# Altium footprint library Package_SO.PcbLib: 33 footprints (part 1 of 3)
Each footprint in its own frame and in the unit in brackets; x right, y up, seen from the top. Pads: shape width x height; smd on the part's side, far side on the other; paste and mask are expansions set on the pad; w line width, h text height; cw(c..) or ccw(c..) is an arc to the next point about the centre after c.
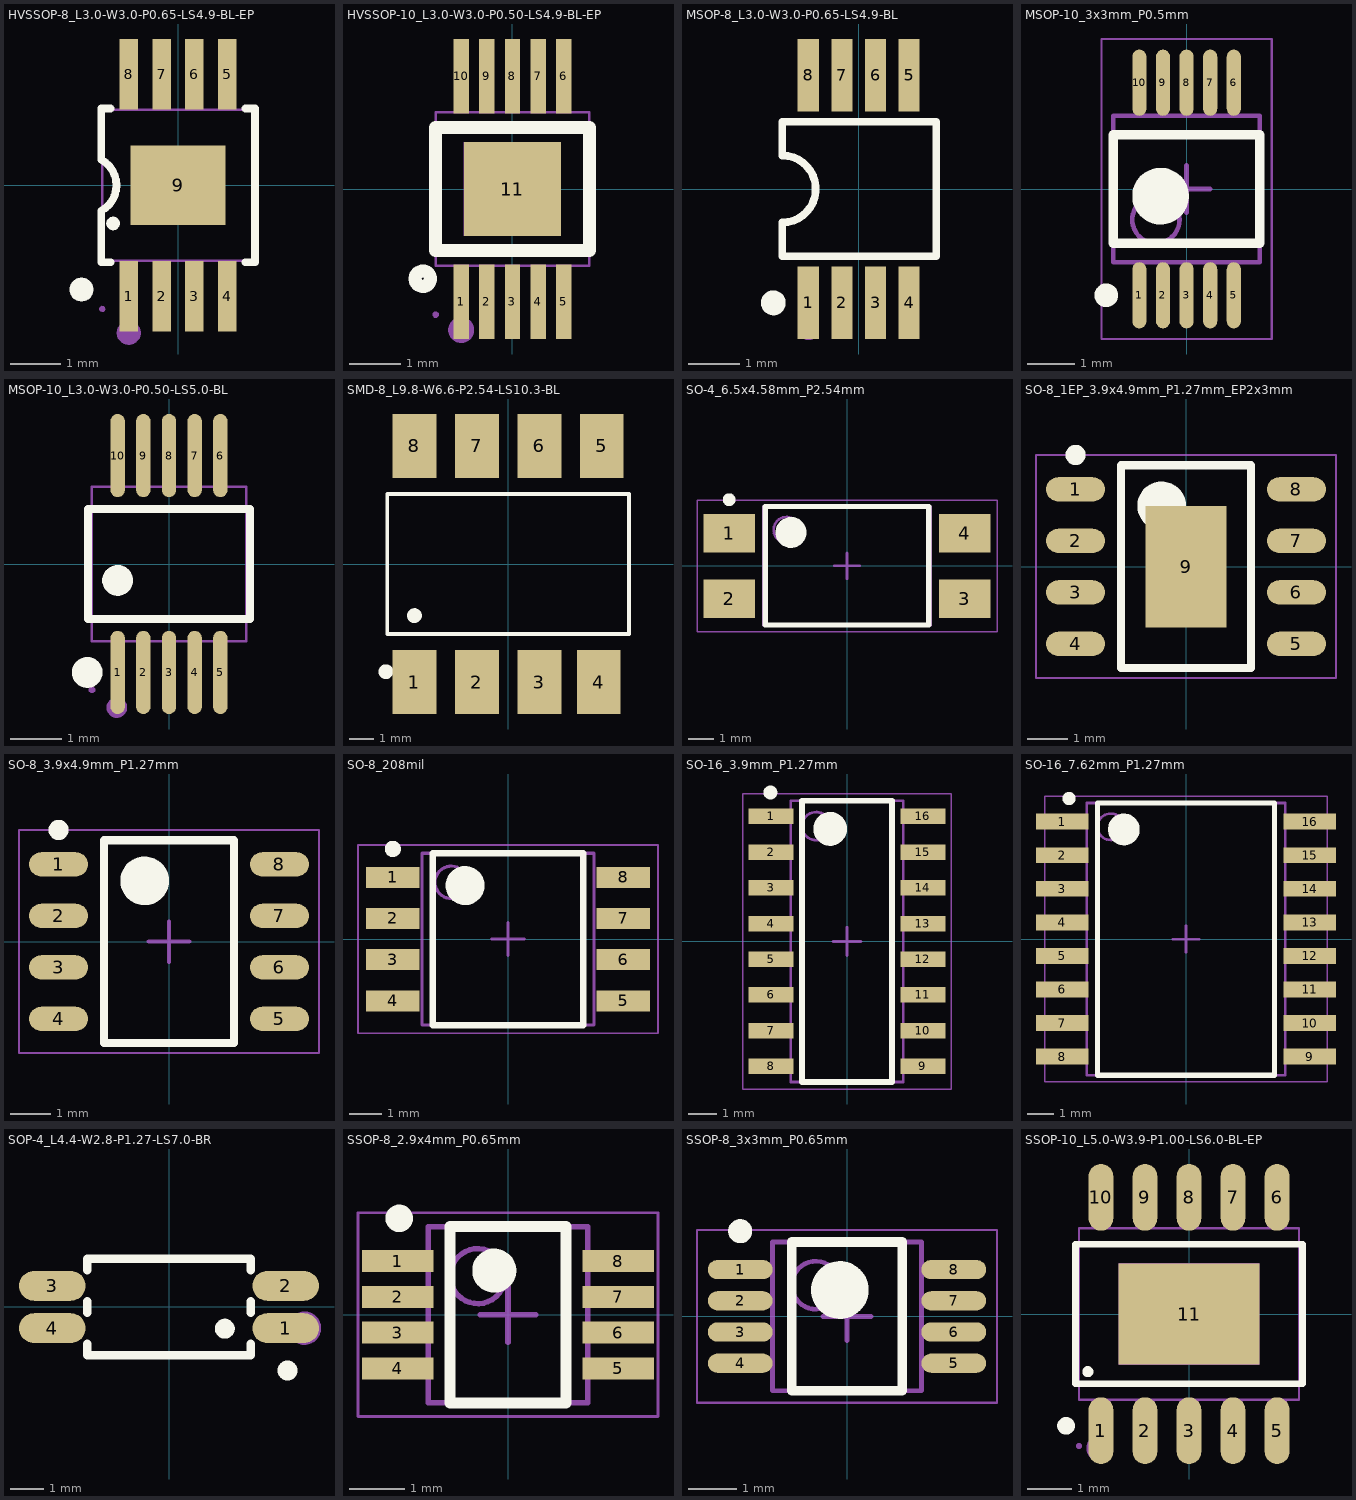
[diagram p0: the footprints below, top view; thin cyan lines are the x and y axes]

## HVSSOP-8_L3.0-W3.0-P0.65-LS4.9-BL-EP [mm]
pads (9):
  rect 0.363x1.4 smd: 1(-0.975,-2.2) 2(-0.325,-2.2) 3(0.325,-2.2) 4(0.975,-2.2) 5(0.975,2.2) 6(0.325,2.2) 7(-0.325,2.2) 8(-0.975,2.2)
  rect 1.89x1.57 smd: 9(0,0)
Top Overlay:
  lines w0.137: -1.354,-0.754 -1.346,-0.721 -1.321,-0.696 -1.285,-0.686 -1.252,-0.696 -1.227,-0.721 -1.217,-0.754 -1.227,-0.79 -1.252,-0.815 -1.285,-0.823 -1.321,-0.815 -1.346,-0.79 -1.354,-0.754
  lines w0.152: -1.336,-1.524 -1.524,-1.524 -1.524,-0.508 -1.438,-0.45 -1.361,-0.378 -1.3,-0.295 -1.257,-0.203 -1.229,-0.102 -1.219,0 -1.229,0.104 -1.257,0.203 -1.3,0.297 -1.361,0.381 -1.438,0.452 -1.524,0.508 -1.524,1.524 -1.336,1.524 ; 1.339,-1.524 1.524,-1.524 1.524,1.524 1.339,1.524
  lines w0.239: -2.032,-2.065 -2.022,-2.019 -1.996,-1.981 -1.958,-1.953 -1.913,-1.946 -1.867,-1.953 -1.826,-1.981 -1.801,-2.019 -1.793,-2.065 -1.801,-2.111 -1.826,-2.149 -1.867,-2.177 -1.913,-2.184 -1.958,-2.177 -1.996,-2.149 -2.022,-2.111 -2.032,-2.065
Mechanical 4:
  lines w0.239: -1.095,-2.926 -1.085,-2.88 -1.059,-2.84 -1.021,-2.814 -0.975,-2.807 -0.93,-2.814 -0.889,-2.84 -0.864,-2.88 -0.856,-2.926 -0.864,-2.972 -0.889,-3.01 -0.93,-3.035 -0.975,-3.045 -1.021,-3.035 -1.059,-3.01 -1.085,-2.972 -1.095,-2.926
Mechanical 7:
  lines w0.051: -1.499,-1.499 1.501,-1.499 1.501,1.501 -1.499,1.501 -1.499,-1.499
Mechanical 8:
  region: -0.818,-1.91 -0.818,-1.491 -1.133,-1.491 -1.133,-1.91
  region: -0.168,-1.91 -0.168,-1.491 -0.483,-1.491 -0.483,-1.91
  region: 0.483,-1.91 0.483,-1.491 0.168,-1.491 0.168,-1.91
  region: 1.133,-1.91 1.133,-1.491 0.818,-1.491 0.818,-1.91
  region: 1.133,1.91 1.133,1.491 0.818,1.491 0.818,1.91
  region: 0.483,1.91 0.483,1.491 0.168,1.491 0.168,1.91
  region: -0.168,1.91 -0.168,1.491 -0.483,1.491 -0.483,1.91
  region: -0.818,1.91 -0.818,1.491 -1.133,1.491 -1.133,1.91
Mechanical 9:
  region: -1.44,-2.451 -1.448,-2.482 -1.473,-2.504 -1.509,-2.51 -1.539,-2.494 -1.557,-2.466 -1.557,-2.433 -1.539,-2.405 -1.509,-2.39 -1.473,-2.395 -1.448,-2.418
Mechanical 10:
  region: -0.818,-2.449 -0.818,-1.9 -1.133,-1.9 -1.133,-2.449
  region: -0.168,-2.449 -0.168,-1.9 -0.483,-1.9 -0.483,-2.449
  region: 0.483,-2.449 0.483,-1.9 0.168,-1.9 0.168,-2.449
  region: 1.133,-2.449 1.133,-1.9 0.818,-1.9 0.818,-2.449
  region: 1.133,2.451 1.133,1.9 0.818,1.9 0.818,2.451
  region: 0.483,2.451 0.483,1.9 0.168,1.9 0.168,2.451
  region: -0.168,2.451 -0.168,1.9 -0.483,1.9 -0.483,2.451
  region: -0.818,2.451 -0.818,1.9 -1.133,1.9 -1.133,2.451
  region: -0.899,-0.749 -0.899,0.749 0.902,0.749 0.902,-0.749
3D body "TSOP65P400X115-8N.step": height 1.15, standoff 0, extent -1.6,-2 1.6,2

## HVSSOP-10_L3.0-W3.0-P0.50-LS4.9-BL-EP [mm]
pads (11):
  rect 0.3x1.45 smd: 1(-1,-2.201) 2(-0.5,-2.201) 3(0,-2.201) 4(0.5,-2.201) 5(1,-2.201) 6(1,2.201) 7(0.5,2.201) 8(0,2.201) 9(-0.5,2.201) 10(-1,2.201)
  rect 1.89x1.83 smd: 11(-0.001,-0.001)
Top Overlay:
  circle w0.254: c-1.75,-1.75 r0.15
  lines w0.254: -1.503,-1.199 1.5,-1.199 1.5,1.199 -1.503,1.199 -1.503,0.3 ; -1.501,-1.2 -1.501,0.3
Mechanical 6:
  circle w0.254: c-1,-2.75 r0.127
Mechanical 15:
  region: -1.44,-2.45 -1.441,-2.426 -1.476,-2.391 -1.525,-2.391 -1.56,-2.426 -1.56,-2.45 -1.56,-2.475 -1.525,-2.509 -1.476,-2.509 -1.441,-2.475 -1.44,-2.45
  region: -0.946,0.914 0.943,0.914 0.943,-0.915 -0.946,-0.915
  region: -1.11,1.49 -1.11,1.91 -0.89,1.91 -0.89,1.49
  region: -1.11,1.9 -1.11,2.45 -0.89,2.45 -0.89,1.9
  region: -0.61,1.49 -0.61,1.91 -0.39,1.91 -0.39,1.49
  region: -0.61,1.9 -0.61,2.45 -0.39,2.45 -0.39,1.9
  region: -0.11,1.49 -0.11,1.91 0.11,1.91 0.11,1.49
  region: -0.11,1.9 -0.11,2.45 0.11,2.45 0.11,1.9
  region: 0.39,1.49 0.39,1.91 0.61,1.91 0.61,1.49
  region: 0.39,1.9 0.39,2.45 0.61,2.45 0.61,1.9
  region: 0.89,1.49 0.89,1.91 1.11,1.91 1.11,1.49
  region: 0.89,1.9 0.89,2.45 1.11,2.45 1.11,1.9
  region: 0.89,-1.91 0.89,-1.49 1.11,-1.49 1.11,-1.91
  region: 0.89,-2.45 0.89,-1.9 1.11,-1.9 1.11,-2.45
  region: 0.39,-1.91 0.39,-1.49 0.61,-1.49 0.61,-1.91
  region: 0.39,-2.45 0.39,-1.9 0.61,-1.9 0.61,-2.45
  region: -0.11,-1.91 -0.11,-1.49 0.11,-1.49 0.11,-1.91
  region: -0.11,-2.45 -0.11,-1.9 0.11,-1.9 0.11,-2.45
  region: -0.61,-1.91 -0.61,-1.49 -0.39,-1.49 -0.39,-1.91
  region: -0.61,-2.45 -0.61,-1.9 -0.39,-1.9 -0.39,-2.45
  region: -1.11,-1.91 -1.11,-1.49 -0.89,-1.49 -0.89,-1.91
  region: -1.11,-2.45 -1.11,-1.9 -0.89,-1.9 -0.89,-2.45
  lines w0.051: -1.5,-1.5 -1.5,1.5 1.5,1.5 1.5,-1.5 -1.5,-1.5
3D body "TSSOP50P490X100-10N.step": height 1, standoff 0, extent -1.55,-2.45 1.55,2.45

## MSOP-8_L3.0-W3.0-P0.65-LS4.9-BL [mm]
pads (8):
  rect 0.406x1.397 smd: 1(-0.975,-2.2) 2(-0.325,-2.2) 3(0.325,-2.2) 4(0.975,-2.2) 5(0.975,2.2) 6(0.325,2.2) 7(-0.325,2.2) 8(-0.975,2.2)
Top Overlay:
  circle w0.24: c-1.65,-2.2 r0.12
  lines w0.15: -1.478,-1.3 1.5,-1.3 1.5,1.3 -1.478,1.3 -1.478,0.648 cw(c-1.478,0) -1.478,-0.648 -1.478,-1.3
Mechanical 15:
  circle w0.2: c-0.97,-2.72 r0.1
3D body "TSOP65P400X115-8N.step": height 1.15, standoff 0, extent -1.6,-2 1.6,2

## MSOP-10_3x3mm_P0.5mm [mm] "TSSOP, 10-Leads, Body 3.00x3.00mm, Pitch 0.50mm, IPC Medium Density"
height 1
pads (10):
  oval 0.3x1.4 smd: 1(-1,-2.25) 2(-0.5,-2.25) 3(0,-2.25) 4(0.5,-2.25) 5(1,-2.25) 6(1,2.25) 7(0.5,2.25) 8(0,2.25) 9(-0.5,2.25) 10(-1,2.25)
Top Overlay:
  circle w0.25: c-1.7,-2.25 r0.125
  circle w0.6: c-0.55,-0.15 r0.3
  lines w0.2: -1.55,-1.15 1.55,-1.15 1.55,1.15 -1.55,1.15 -1.55,-1.15
Mechanical 13:
  circle w0.1: c-0.65,-0.65 r0.5
  lines w0.1: -1.55,-1.55 1.55,-1.55 1.55,1.55 -1.55,1.55 -1.55,-1.55
Mechanical 15:
  lines w0.05: -1.8,-3.175 1.8,-3.175 1.8,3.175 -1.8,3.175 -1.8,-3.175
  lines w0.1: -0.5,0 0.5,0 ; 0,-0.5 0,0.5
3D body "TSSOP50P490X100-10N.step": height 1, standoff 0, extent -1.55,-2.45 1.55,2.45

## MSOP-10_L3.0-W3.0-P0.50-LS5.0-BL [mm]
pads (10):
  oval 0.28x1.62 smd paste+0 mask+0.051: 1(-1,-2.11) 2(-0.5,-2.11) 3(0,-2.11) 4(0.5,-2.11) 5(1,-2.11) 6(1,2.11) 7(0.5,2.11) 8(0,2.11) 9(-0.5,2.11) 10(-1,2.11)
Top Overlay:
  circle w0.3: c-1,-0.319 r0.15
  circle w0.3: c-1.592,-2.11 r0.15
  lines w0.152: -1.576,-1.071 -1.576,1.071 1.576,1.071 1.576,-1.071 -1.576,-1.071
Mechanical 6:
  circle w0.2: c-1.016,-2.794 r0.1
Mechanical 15:
  region: -1.44,-2.45 -1.44,-2.425 -1.475,-2.39 -1.525,-2.39 -1.56,-2.425 -1.56,-2.45 -1.56,-2.475 -1.525,-2.51 -1.475,-2.51 -1.44,-2.475 -1.44,-2.45
  region: -1.112,-2.45 -1.112,-1.9 -0.888,-1.9 -0.888,-2.45
  region: -1.112,-1.91 -1.112,-1.49 -0.888,-1.49 -0.888,-1.91
  region: -0.612,-2.45 -0.612,-1.9 -0.388,-1.9 -0.388,-2.45
  region: -0.612,-1.91 -0.612,-1.49 -0.388,-1.49 -0.388,-1.91
  region: -0.112,-2.45 -0.112,-1.9 0.112,-1.9 0.112,-2.45
  region: -0.112,-1.91 -0.112,-1.49 0.112,-1.49 0.112,-1.91
  region: 0.388,-2.45 0.388,-1.9 0.612,-1.9 0.612,-2.45
  region: 0.388,-1.91 0.388,-1.49 0.612,-1.49 0.612,-1.91
  region: 0.888,-2.45 0.888,-1.9 1.112,-1.9 1.112,-2.45
  region: 0.888,-1.91 0.888,-1.49 1.112,-1.49 1.112,-1.91
  region: -1.112,2.45 -1.112,1.9 -0.888,1.9 -0.888,2.45
  region: -1.112,1.91 -1.112,1.49 -0.888,1.49 -0.888,1.91
  region: -0.612,2.45 -0.612,1.9 -0.388,1.9 -0.388,2.45
  region: -0.612,1.91 -0.612,1.49 -0.388,1.49 -0.388,1.91
  region: -0.112,2.45 -0.112,1.9 0.112,1.9 0.112,2.45
  region: -0.112,1.91 -0.112,1.49 0.112,1.49 0.112,1.91
  region: 0.388,2.45 0.388,1.9 0.612,1.9 0.612,2.45
  region: 0.388,1.91 0.388,1.49 0.612,1.49 0.612,1.91
  region: 0.888,2.45 0.888,1.9 1.112,1.9 1.112,2.45
  region: 0.888,1.91 0.888,1.49 1.112,1.49 1.112,1.91
  lines w0.051: -1.5,-1.5 -1.5,1.5 1.5,1.5 1.5,-1.5 -1.5,-1.5
3D body "U1.stp": height 1.1, standoff 0, extent -1.5,-2.5 1.5,2.5

## SMD-8_L9.8-W6.6-P2.54-LS10.3-BL [mm]
pads (8):
  rect 1.78x2.6 smd: 1(-3.81,-4.8) 2(-1.27,-4.8) 3(1.27,-4.8) 4(3.683,-4.8) 5(3.81,4.8) 6(1.27,4.8) 7(-1.27,4.8) 8(-3.81,4.8)
Top Overlay:
  circle w0.3: c-4.974,-4.38 r0.15
  circle w0.3: c-3.81,-2.099 r0.15
  lines w0.152: -4.916,-2.851 4.916,-2.851 4.916,2.851 -4.916,2.851 -4.916,-2.851
Mechanical 15:
  circle w0.6: c-3.81,-5.334 r0.3
3D body "U1.stp": height 5.08, standoff 0, extent -4.9,-5.15 4.9,5.15

## SO-4_6.5x4.58mm_P2.54mm [mm] "SOP, 4-Leads, Body 4.58x6.50mm, Pitch 2.54mm, IPC Medium Density"
height 4.3
pads (4):
  rect 2x1.5 smd: 1(-4.575,1.27) 2(-4.575,-1.27) 3(4.575,-1.27) 4(4.575,1.27)
Top Overlay:
  circle w0.25: c-4.575,2.57 r0.125
  circle w0.6: c-2.175,1.3 r0.3
  lines w0.2: -3.175,-2.3 -3.175,2.3 3.175,2.3 3.175,-2.3 -3.175,-2.3
Mechanical 13:
  circle w0.1: c-2.35,1.4 r0.5
  lines w0.1: -3.25,-2.3 -3.25,2.3 3.25,2.3 3.25,-2.3 -3.25,-2.3
Mechanical 15:
  lines w0.05: -5.825,-2.55 -5.825,2.55 5.825,2.55 5.825,-2.55 -5.825,-2.55
  lines w0.1: -0.5,0 0.5,0 ; 0,-0.5 0,0.5
3D body "SOP254P1030X430-4N.step": height 4.3, standoff 0, extent -5.15,-2.3 5.15,2.3

## SO-8_1EP_3.9x4.9mm_P1.27mm_EP2x3mm [mm] "SOIC, 8-Leads, Body 4.9x3.90mm, Pitch 1.27mm, IPC Medium Density"
height 1.5
pads (9):
  oval 1.45x0.6 smd: 1(-2.725,1.905) 2(-2.725,0.635) 3(-2.725,-0.635) 4(-2.725,-1.905) 5(2.725,-1.905) 6(2.725,-0.635) 7(2.725,0.635) 8(2.725,1.905)
  rect 2x3 smd: 9(0,0)
Top Overlay:
  circle w0.6: c-0.6,1.5 r0.3
  circle w0.25: c-2.725,2.755 r0.125
  lines w0.2: -1.6,-2.5 1.6,-2.5 1.6,2.5 -1.6,2.5 -1.6,-2.5
Mechanical 15:
  lines w0.05: -3.7,-2.75 3.7,-2.75 3.7,2.75 -3.7,2.75 -3.7,-2.75
  lines w0.1: -0.5,0 0.5,0 ; 0,-0.5 0,0.5
3D body "CircuitWorks-SO-8.STEP": height 1.45, standoff 0, extent -2.915,-2.438 2.864,2.464

## SO-8_3.9x4.9mm_P1.27mm [mm] "SOIC, 8-Leads, Body 4.9x3.90mm, Pitch 1.27mm, IPC Medium Density"
height 1.5
pads (8):
  oval 1.45x0.6 smd: 1(-2.725,1.905) 2(-2.725,0.635) 3(-2.725,-0.635) 4(-2.725,-1.905) 5(2.725,-1.905) 6(2.725,-0.635) 7(2.725,0.635) 8(2.725,1.905)
Top Overlay:
  circle w0.6: c-0.6,1.5 r0.3
  circle w0.25: c-2.725,2.755 r0.125
  lines w0.2: -1.6,-2.5 1.6,-2.5 1.6,2.5 -1.6,2.5 -1.6,-2.5
Mechanical 15:
  lines w0.05: -3.7,-2.75 3.7,-2.75 3.7,2.75 -3.7,2.75 -3.7,-2.75
  lines w0.1: -0.5,0 0.5,0 ; 0,-0.5 0,0.5
3D body "CircuitWorks-SO-8.STEP": height 1.45, standoff 0, extent -2.915,-2.438 2.864,2.464

## SO-8_208mil [mm] "SOIC, 8-Leads, Body 5.28x5.28mm, Pitch 1.27mm, IPC Medium Density"
height 1.96
pads (8):
  rect 1.65x0.65 smd: 1(-3.55,1.905) 2(-3.55,0.635) 3(-3.55,-0.635) 4(-3.55,-1.905) 5(3.55,-1.905) 6(3.55,-0.635) 7(3.55,0.635) 8(3.55,1.905)
Top Overlay:
  circle w0.25: c-3.55,2.78 r0.125
  circle w0.6: c-1.325,1.65 r0.3
  lines w0.2: -2.325,-2.65 -2.325,2.65 2.325,2.65 2.325,-2.65 -2.325,-2.65
Mechanical 13:
  circle w0.1: c-1.75,1.75 r0.5
  lines w0.1: -2.65,-2.65 -2.65,2.65 2.65,2.65 2.65,-2.65 -2.65,-2.65
Mechanical 15:
  lines w0.05: -4.625,-2.9 -4.625,2.9 4.625,2.9 4.625,-2.9 -4.625,-2.9
  lines w0.1: -0.5,0 0.5,0 ; 0,-0.5 0,0.5
3D body "SOIC127P790X196-8N.step": height 1.96, standoff 0, extent -3.95,-2.65 3.95,2.65

## SO-16_3.9mm_P1.27mm [mm] "SOIC, 16-Leads, Body 9.90x3.90mm, Pitch 1.27mm, IPC Medium Density"
height 1.75
pads (16):
  rect 1.6x0.55 smd: 1(-2.7,4.445) 2(-2.7,3.175) 3(-2.7,1.905) 4(-2.7,0.635) 5(-2.7,-0.635) 6(-2.7,-1.905) 7(-2.7,-3.175) 8(-2.7,-4.445) 9(2.7,-4.445) 10(2.7,-3.175) 11(2.7,-1.905) 12(2.7,-0.635) 13(2.7,0.635) 14(2.7,1.905) 15(2.7,3.175) 16(2.7,4.445)
Top Overlay:
  circle w0.25: c-2.725,5.295 r0.125
  circle w0.6: c-0.6,4 r0.3
  lines w0.2: -1.6,-5 -1.6,5 1.6,5 1.6,-5 -1.6,-5
Mechanical 13:
  circle w0.1: c-1.1,4.1 r0.5
  lines w0.1: -2,-5 -2,5 2,5 2,-5 -2,-5
Mechanical 15:
  lines w0.05: -3.7,-5.25 -3.7,5.25 3.7,5.25 3.7,-5.25 -3.7,-5.25
  lines w0.1: -0.5,0 0.5,0 ; 0,-0.5 0,0.5
3D body "SOIC127P600X175-16N.step": height 1.75, standoff 0, extent -3,-5 3,5

## SO-16_7.62mm_P1.27mm [mm] "SOIC, 16-Leads, Body 10.30x7.50mm, Pitch 1.27mm, IPC Medium Density"
height 2
pads (16):
  rect 1.98x0.6 smd: 1(-4.685,4.445) 2(-4.685,3.175) 3(-4.685,1.905) 4(-4.685,0.635) 5(-4.685,-0.635) 6(-4.685,-1.905) 7(-4.685,-3.175) 8(-4.685,-4.445) 9(4.685,-4.445) 10(4.685,-3.175) 11(4.685,-1.905) 12(4.685,-0.635) 13(4.685,0.635) 14(4.685,1.905) 15(4.685,3.175) 16(4.685,4.445)
Top Overlay:
  circle w0.25: c-4.425,5.32 r0.125
  circle w0.6: c-2.35,4.15 r0.3
  lines w0.2: -3.35,-5.15 -3.35,5.15 3.35,5.15 3.35,-5.15 -3.35,-5.15
Mechanical 13:
  circle w0.1: c-2.85,4.25 r0.5
  lines w0.1: -3.75,-5.15 -3.75,5.15 3.75,5.15 3.75,-5.15 -3.75,-5.15
Mechanical 15:
  lines w0.05: -5.35,-5.4 -5.35,5.4 5.35,5.4 5.35,-5.4 -5.35,-5.4
  lines w0.1: -0.5,0 0.5,0 ; 0,-0.5 0,0.5
3D body "SOIC127P940X200-16N.step": height 2, standoff 0, extent -4.685,-5.15 4.685,5.15

## SOP-4_L4.4-W2.8-P1.27-LS7.0-BR [mm]
pads (4):
  oval 2x0.9 smd: 1(3.5,-0.635) 2(3.5,0.635) 3(-3.5,0.635) 4(-3.5,-0.635)
Top Overlay:
  lines w0.254: -2.45,-1.097 -2.45,-1.45 2.45,-1.45 2.45,-1.096 ; -2.45,-0.174 -2.45,0.173 ; -2.45,1.096 -2.45,1.45 2.45,1.45 2.45,1.096 ; 2.45,-0.174 2.45,0.174
  lines w0.3: 1.672,-0.801 cw(c1.673,-0.651) 1.674,-0.801 ; 3.555,-2.055 cw(c3.556,-1.905) 3.557,-2.055
Mechanical 15:
  circle w0.5: c4.064,-0.635 r0.25
3D body "U1.stp": height 2.1, standoff 0, extent -3.503,-1.3 3.503,1.3

## SSOP-8_2.9x4mm_P0.65mm [mm] "TSOP, 8-Leads, Body 2.95x2.80mm, Pitch 0.65mm, IPC Medium Density"
height 1.15
pads (8):
  rect 1.3x0.4 smd: 1(-2,0.975) 2(-2,0.325) 3(-2,-0.325) 4(-2,-0.975) 5(2,-0.975) 6(2,-0.325) 7(2,0.325) 8(2,0.975)
Top Overlay:
  circle w0.4: c-0.25,0.8 r0.2
  circle w0.25: c-1.975,1.75 r0.125
  lines w0.2: -1.05,-1.6 1.05,-1.6 1.05,1.6 -1.05,1.6 -1.05,-1.6
Mechanical 13:
  circle w0.1: c-0.55,0.7 r0.5
  lines w0.1: -1.45,-1.6 1.45,-1.6 1.45,1.6 -1.45,1.6 -1.45,-1.6
Mechanical 15:
  lines w0.05: -2.725,-1.85 2.725,-1.85 2.725,1.85 -2.725,1.85 -2.725,-1.85
  lines w0.1: -0.5,0 0.5,0 ; 0,-0.5 0,0.5
3D body "TSOP65P400X115-8N.step": height 1.15, standoff 0, extent -2,-1.6 2,1.6

## SSOP-8_3x3mm_P0.65mm [mm] "TSOP, 8-Leads, Body 3.00x3.00mm, Pitch 0.65mm, IPC Medium Density"
height 0.8
pads (8):
  oval 1.35x0.4 smd: 1(-2.225,0.975) 2(-2.225,0.325) 3(-2.225,-0.325) 4(-2.225,-0.975) 5(2.225,-0.975) 6(2.225,-0.325) 7(2.225,0.325) 8(2.225,0.975)
Top Overlay:
  circle w0.25: c-2.225,1.775 r0.125
  circle w0.6: c-0.15,0.55 r0.3
  lines w0.2: -1.15,-1.55 -1.15,1.55 1.15,1.55 1.15,-1.55 -1.15,-1.55
Mechanical 13:
  circle w0.1: c-0.65,0.65 r0.5
  lines w0.1: -1.55,-1.55 -1.55,1.55 1.55,1.55 1.55,-1.55 -1.55,-1.55
Mechanical 15:
  lines w0.05: -3.125,-1.8 -3.125,1.8 3.125,1.8 3.125,-1.8 -3.125,-1.8
  lines w0.1: -0.5,0 0.5,0 ; 0,-0.5 0,0.5
3D body "TSOP65P490X80-8N.step": height 0.8, standoff 0, extent -2.452,-1.55 2.452,1.55

## SSOP-10_L5.0-W3.9-P1.00-LS6.0-BL-EP [mm]
pads (11):
  oval 0.56x1.515 smd: 1(-2,-2.65) 2(-1,-2.65) 3(0,-2.65) 4(1,-2.65) 5(2,-2.65) 6(2,2.65) 7(1,2.65) 8(0,2.65) 9(-1,2.65) 10(-2,2.65)
  rect 3.2x2.3 smd: 11(0,0)
Top Overlay:
  circle w0.125: c-2.299,-1.31 r0.062
  circle w0.2: c-2.794,-2.54 r0.1
  lines w0.152: -2.576,-1.588 -2.576,1.588 2.576,1.588 2.576,-1.588 -2.576,-1.588
Mechanical 6:
  circle w0.3: c-2.032,-3.048 r0.15
Mechanical 15:
  region: -2.44,-3 -2.44,-3.025 -2.475,-3.06 -2.525,-3.06 -2.56,-3.025 -2.56,-3 -2.56,-2.975 -2.525,-2.94 -2.475,-2.94 -2.44,-2.975 -2.44,-3
  region: -1.785,-3 -1.785,-2.5 -2.215,-2.5 -2.215,-3
  region: -1.785,-2.51 -1.785,-1.94 -2.215,-1.94 -2.215,-2.51
  region: -0.785,-3 -0.785,-2.5 -1.215,-2.5 -1.215,-3
  region: -0.785,-2.51 -0.785,-1.94 -1.215,-1.94 -1.215,-2.51
  region: 0.215,-3 0.215,-2.5 -0.215,-2.5 -0.215,-3
  region: 0.215,-2.51 0.215,-1.94 -0.215,-1.94 -0.215,-2.51
  region: 1.215,-3 1.215,-2.5 0.785,-2.5 0.785,-3
  region: 1.215,-2.51 1.215,-1.94 0.785,-1.94 0.785,-2.51
  region: 2.215,-3 2.215,-2.5 1.785,-2.5 1.785,-3
  region: 2.215,-2.51 2.215,-1.94 1.785,-1.94 1.785,-2.51
  region: 2.215,3 2.215,2.5 1.785,2.5 1.785,3
  region: 2.215,2.51 2.215,1.94 1.785,1.94 1.785,2.51
  region: 1.215,3 1.215,2.5 0.785,2.5 0.785,3
  region: 1.215,2.51 1.215,1.94 0.785,1.94 0.785,2.51
  region: 0.215,3 0.215,2.5 -0.215,2.5 -0.215,3
  region: 0.215,2.51 0.215,1.94 -0.215,1.94 -0.215,2.51
  region: -0.785,3 -0.785,2.5 -1.215,2.5 -1.215,3
  region: -0.785,2.51 -0.785,1.94 -1.215,1.94 -1.215,2.51
  region: -1.785,3 -1.785,2.5 -2.215,2.5 -2.215,3
  region: -1.785,2.51 -1.785,1.94 -2.215,1.94 -2.215,2.51
  region: -1.6,-1.15 -1.6,1.15 1.6,1.15 1.6,-1.15
  lines w0.051: -2.5,-1.95 -2.5,1.95 2.5,1.95 2.5,-1.95 -2.5,-1.95
3D body "1.step": height 1.8, standoff 0, extent -2.5,-3 2.5,3